# Altium schematic symbol library PZEM-004T.SchLib: 1 symbol
Pins are listed as number, name and electrical type; pins without a type are passive.

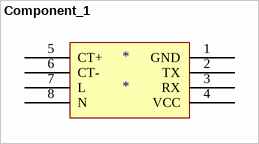
[diagram p0: symbol Component_1]

## Component_1
designator *
pins: 1 GND, 2 TX, 3 RX, 4 VCC, 5 CT+, 6 CT-, 7 L, 8 N